# EAGLE library part AP62200 (library SW_BuckBoost)
Buck Switching Regulator IC Positive Adjustable 0.8V 1 Output 2A SOT-23-6 Thin, TSOT-23-6
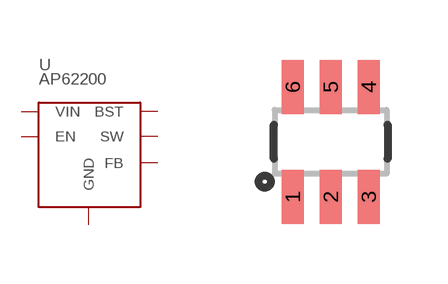
[diagram p0: symbol with the pads of SOT-23-6; footprint SOT-23-6]

Designator prefix U

## AP62200 (CATEGORY: Power; DESCRIPTION: Buck Switching Regulator IC Positive Adjustable 0.8V 1 Output 2A SOT-23-6 Thin, TSOT-23-6; MFGS: Diodes Incorporated,Diodes Incorporated; MPNS: AP62200WU-7,AP62200TWU-7; PACKAGE: TSOT-23-6; PART_NUMBER: AP62200WU-7; SW_PART_NUMBER: SW0000833)  [SOT-23-6]
1  GND
2  SW
3  VIN
4  FB
5  EN
6  BST

## Footprint SOT-23-6 (pad centres in mm)
SOT-23-6
smd 0.55 x 1.35: 1 -0.95,-1.375; 2 0,-1.375; 3 0.95,-1.375; 4 0.95,1.375; 5 0,1.375; 6 -0.95,1.375